# Altium footprint library mylib.PcbLib: 214 footprints (part 3 of 14)
Each footprint in its own frame and in the unit in brackets; x right, y up, seen from the top. Pads: shape width x height; smd on the part's side, far side on the other; paste and mask are expansions set on the pad; w line width, h text height; cw(c..) or ccw(c..) is an arc to the next point about the centre after c.
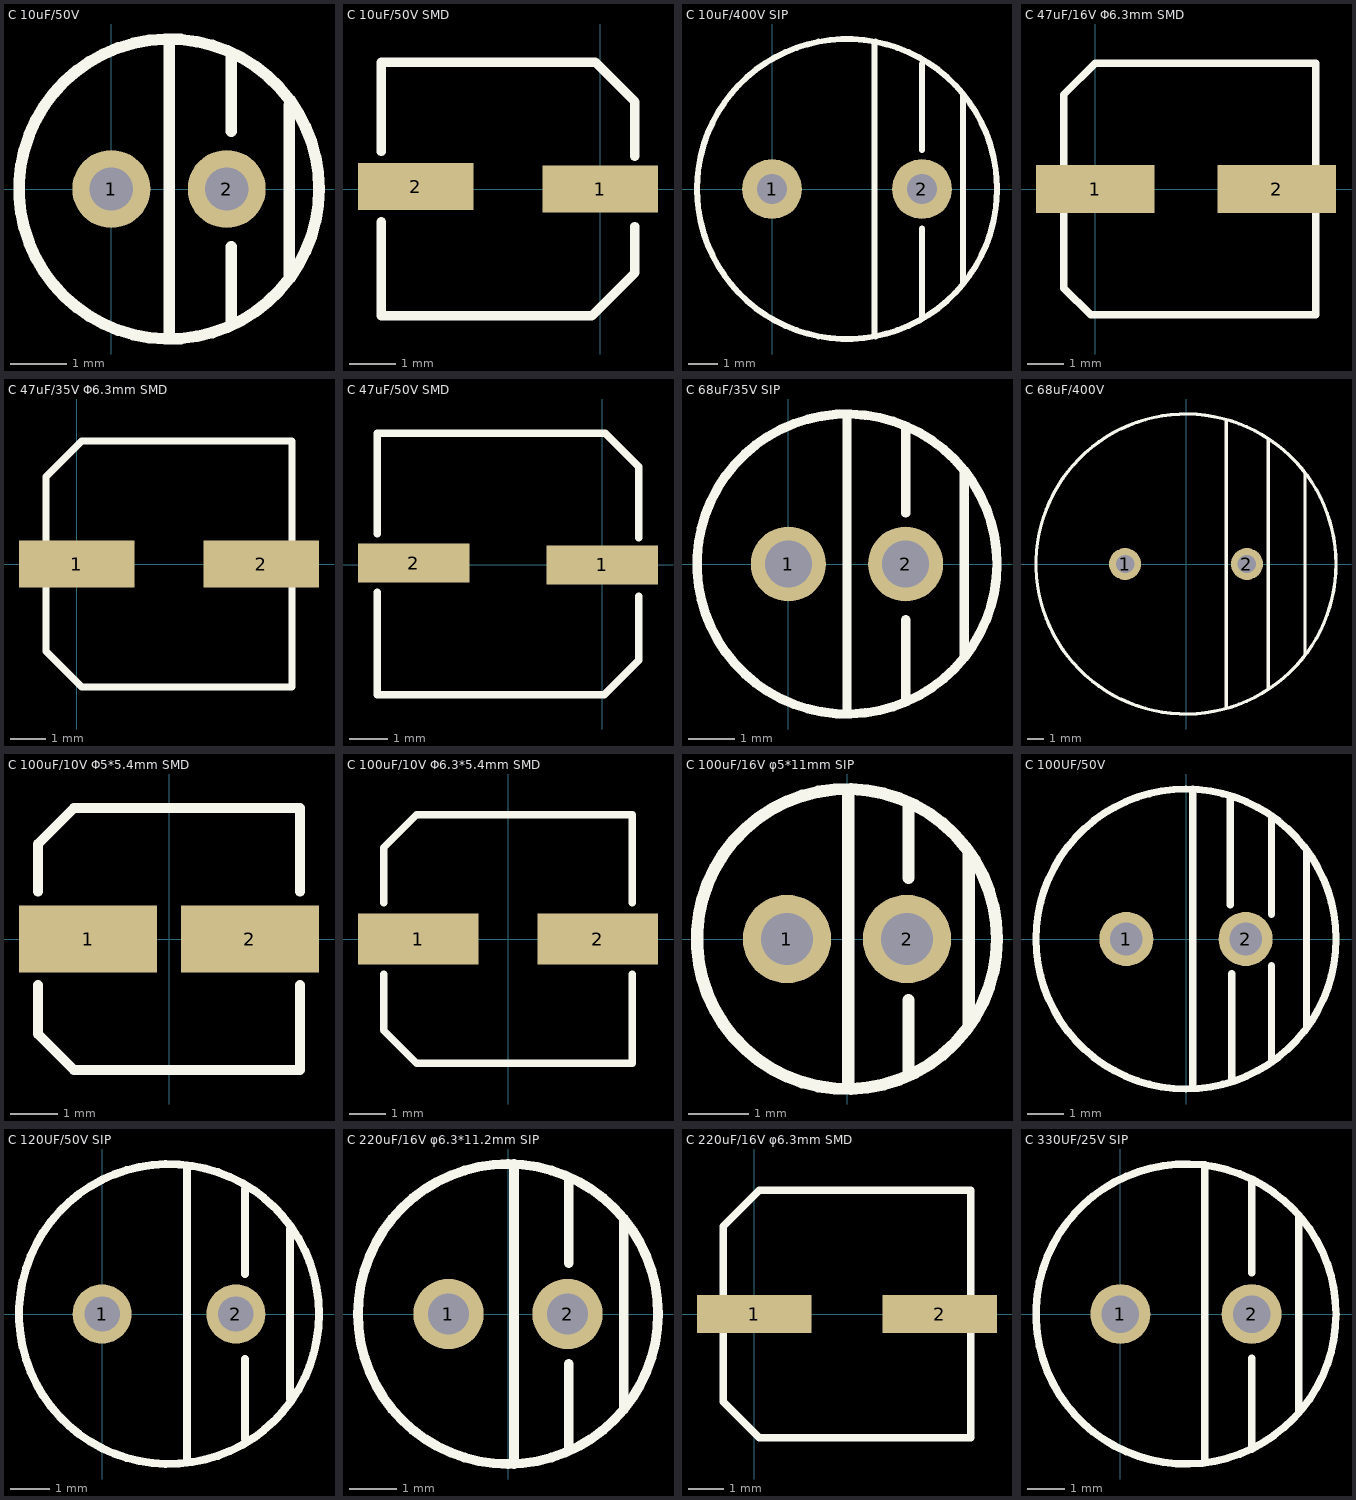
[diagram p2: the footprints below, top view; thin cyan lines are the x and y axes]

## C 10uF/50V [mil]
pads (2):
  round 54 hole 30: 1(0,0) 2(80,0)
Top Overlay:
  circle w8: c40,0 r104
  lines w8: 40.24,-103 40.24,103 ; 83,-94 83,-40 ; 83,40 83,94 ; 123.24,-61 123.24,58

## C 10uF/50V SMD [mil]
pads (2):
  rect 98.43x40 smd: 1(0,0) 2(-157.48,2)
Top Overlay:
  lines w8: -187,-108.27 -7.27,-108.27 29.53,-71.47 29.53,-32 ; -187,-108 -187.01,-28 ; -187.01,32 -187,108 ; -187,108.27 -4.27,108.27 29.53,74.47 29.53,28

## C 10uF/400V SIP [mil]
pads (2):
  round 80 hole 40: 1(0,0) 2(200,0)
Top Overlay:
  circle w8: c100,0 r200
  lines w8: 137,-196 137,196 ; 200,-172 200,-53 ; 200,52 200,167 ; 255,-125 255,124

## C 47uF/16V Φ6.3mm SMD [mil] "CES66"
pads (2):
  rect 128x52 smd: 1(0,0) 2(196,0)
Top Overlay:
  lines w8: -34,-107 -5,-136 238,-136 238,136 0,136 -34,102 -34,-107

## C 47uF/35V Φ6.3mm SMD [mil]
pads (2):
  rect 128x52 smd: 1(0,0) 2(204,0)
Top Overlay:
  lines w8: -34,-96.46 5.54,-136 238,-136 238,136 5.54,136 -34,96.46 -34,-96.46

## C 47uF/50V SMD [mil]
pads (2):
  rect 114.17x40 smd: 1(0,0) 2(-192.91,2)
Top Overlay:
  lines w8: -230.31,-28 -230.31,-132.86 2.14,-132.86 37.4,-97.6 37.4,-32 ; -230.31,32 -230.31,134.86 2.94,134.86 37.4,100.39 37.4,98 37.4,28

## C 68uF/35V SIP [mil]
pads (2):
  round 64 hole 40: 1(0,0) 2(100,0)
Top Overlay:
  circle w8: c50,0 r128
  lines w8: 50,-128 50,128 ; 100,-117 100,-47.5 ; 100,43.5 100,117 ; 150,-79 150,79

## C 68uF/400V [mil]
pads (2):
  round 76 hole 44: 1(-145.5,0) 2(145.5,0)
Top Overlay:
  circle w8: c0,0 r358
  lines w8: 96,-342 96,342 ; 196,-298 196,296 ; 284,-218 284,218

## C 100uF/10V Φ5*5.4mm SMD [mm] "CES66"
pads (2):
  rect 2.9x1.4 smd: 1(-1.7,0) 2(1.7,0)
Top Overlay:
  lines w0.203: -2.75,-0.965 -2.75,-2 -2,-2.75 2.75,-2.75 2.75,-0.965 ; -2.75,0.991 -2.75,2 -2,2.75 2.75,2.75 2.75,0.991

## C 100uF/10V Φ6.3*5.4mm SMD [mm] "CES66"
pads (2):
  rect 3.3x1.4 smd: 1(-2.45,0) 2(2.45,0)
Top Overlay:
  lines w0.203: -3.4,-0.965 -3.4,-2.5 -2.5,-3.4 3.4,-3.4 3.4,-0.965 ; -3.4,0.991 -3.4,2.5 -2.5,3.4 3.4,3.4 3.4,0.991

## C 100uF/16V φ5*11mm SIP [mil]
pads (2):
  round 58 hole 34: 1(-39.37,0) 2(39.37,0)
Top Overlay:
  circle w8: c0,0 r98.43
  lines w8: 0.87,-98 0.87,98 ; 40.37,-89 40.37,-40 ; 40.37,40 40.37,88 ; 79.87,-56 79.87,57

## C 100UF/50V [mm]
pads (2):
  round 1.5 hole 0.9: 1(-1.65,0) 2(1.65,0)
Top Overlay:
  lines w0.203: 0.185,-4.089 0.185,-3.1 0.185,3 0.185,4.139 ; 1.225,0.94 1.225,2.88 1.225,3.909 ; 1.265,-3.899 1.265,-2.84 1.265,-0.96 ; 2.365,-3.348 2.365,-2.1 2.365,-0.734 ; 2.365,0.689 2.365,2 2.365,3.322 ; 3.335,-2.464 3.335,2.413 ; -4.15,0 ccw(c0,0) 0,-4.15 ccw(c0,0) 4.15,0 ccw(c0,0) 0,4.15 ccw(c0,0) -4.15,0

## C 120UF/50V SIP [mm]
pads (2):
  round 1.5 hole 0.9: 1(0,0) 2(3.4,0)
Top Overlay:
  circle w0.203: c1.7,0 r3.81
  lines w0.203: 2.159,-3.683 2.159,3.683 ; 3.629,-3.175 3.629,-1.143 ; 3.629,1.016 3.629,3.175 ; 4.769,-2.159 4.769,2.159

## C 220uF/16V φ6.3*11.2mm SIP [mil]
pads (2):
  round 58 hole 34: 1(-49.21,0) 2(49.21,0)
Top Overlay:
  circle w8: c0,0 r124.02
  lines w8: 5.02,-124 5.02,124 ; 50.35,-113 50.35,-41 ; 50.35,42 50.35,113 ; 95.68,-79 95.68,78

## C 220uF/16V φ6.3mm SMD [mil]
pads (2):
  rect 126x42 smd: 1(0,0) 2(204,0)
Top Overlay:
  lines w8: -34,-96.46 -34,96.46 5.54,136 238,136 238,-136 5.54,-136 -34,-96.46

## C 330UF/25V SIP [mil]
pads (2):
  round 64 hole 40: 1(0,0) 2(140,0)
Top Overlay:
  circle w8: c70,0 r160
  lines w8: 90,-158 90,159 ; 140,-144 140,-47 ; 140,44 140,143 ; 190,-105 190,105